# Altium schematic symbol library Holes.SchLib: 10 symbols
Pins are listed as number, name and electrical type; pins without a type are passive.

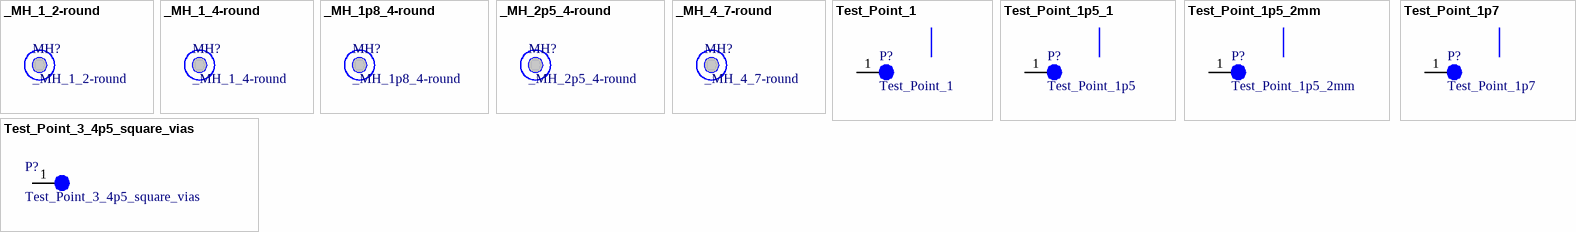
[diagram p0: symbols _MH_1_2-round to Test_Point_3_4p5_square_vias]

## _MH_1_2-round
designator MH?
matching hole 1mm hole, 2mm pad (round)
footprint _MH_1_2-round (Matching hole, 1mm hole, 2mm pad (round))

## _MH_1_4-round
designator MH?
matching hole 1mm hole, 4mm pad (round)
footprint _MH_1_4-round (Matching hole, 1mm hole, 4mm pad (round))

## _MH_1p8_4-round
designator MH?
matching hole 1.8mm hole, 4mm pad (round)
footprint _MH_1p8_4-round (Matching hole, 1.8mm hole, 4mm pad (round))

## _MH_2p5_4-round
designator MH?
matching hole 2.5 hole, 4mm pad (round)
footprint _MH_2p5_4-round (Matching hole, 2.5mm hole, 4mm pad (round))

## _MH_4_7-round
designator MH?
matching hole 4mm hole, 7mm pad (round)
footprint _MH_4_7-round (Matching hole, 4mm hole, 7mm pad (round))

## Test_Point_1
designator P?
Test point 1mm
footprint _TP_1mm (test point 1mm)
pins: 1

## Test_Point_1p5_1
designator P?, comment Test_Point_1p5
Test point 1.5mm
footprint _TP_1p5 (test point 1.5mm)
pins: 1

## Test_Point_1p5_2mm
designator P?
Test point hole 1.5mm solder
footprint _TP_1p5_2
pins: 1

## Test_Point_1p7
designator P?
Test point 1.7mm
footprint _TP_1p7
pins: 1

## Test_Point_3_4p5_square_vias
designator P?
Test point 4.5mm hole 3mm square connector with vias
footprint _TP_3_4p5_square_vias
pins: 1